# Altium footprint library OsuBoard.PcbLib: 3 footprints
Each footprint in its own frame and in the unit in brackets; x right, y up, seen from the top. Pads: shape width x height; smd on the part's side, far side on the other; paste and mask are expansions set on the pad; w line width, h text height; cw(c..) or ccw(c..) is an arc to the next point about the centre after c.
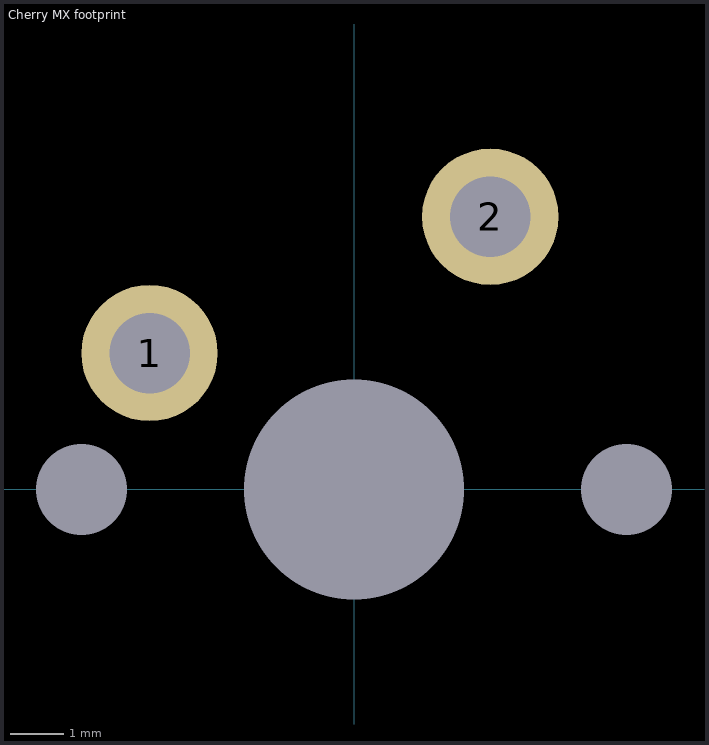
[diagram p0: the footprints below, top view; thin cyan lines are the x and y axes]

## Cherry MX footprint [mm]
pads (5):
  round 2.54 hole 1.5: 1(-3.81,2.54) 2(2.54,5.08)
  round 0 hole 1.7 unplated: A(-5.08,0) A(5.08,0)
  round 1.27 hole 4.1 unplated: ""(0,0)

## PCBComponent_1 [mil]

## PCBComponent_1 - duplicate [mil]